# EAGLE library part ESP32DEVB (library MouseLib)
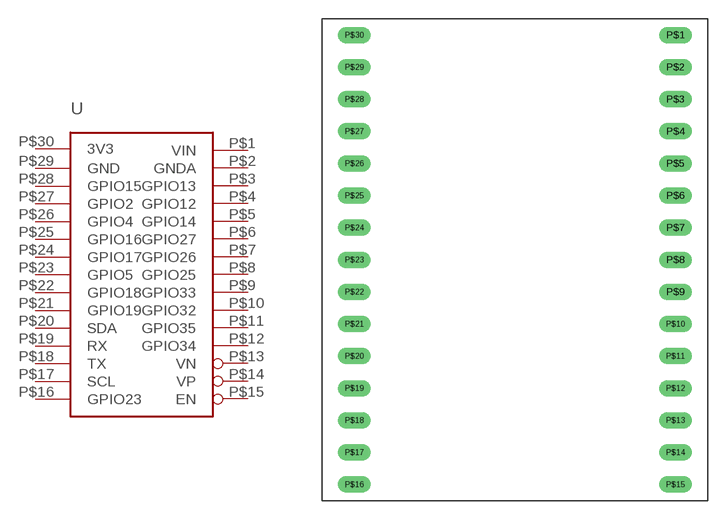
[diagram p10: symbol with the pads of ESP32PINS; footprint ESP32PINS]

Designator prefix -

## ESP32DEVB  [ESP32PINS]
P$1  VIN  pwr
P$2  GNDA  pwr
P$3  GPIO13
P$4  GPIO12
P$5  GPIO14
P$6  GPIO27
P$7  GPIO26
P$8  GPIO25
P$9  GPIO33
P$10  GPIO32
P$11  GPIO35
P$12  GPIO34
P$13  VN
P$14  VP
P$15  EN
P$16  GPIO23
P$17  SCL
P$18  TX
P$19  RX
P$20  SDA
P$21  GPIO19
P$22  GPIO18
P$23  GPIO5
P$24  GPIO17
P$25  GPIO16
P$26  GPIO4
P$27  GPIO2
P$28  GPIO15
P$29  GND  pwr
P$30  3V3  pwr

## Footprint ESP32PINS (pad centres in mm)
drill 0.8 pad 1.143 long: P$1 12.7,19.05; P$2 12.7,16.51; P$3 12.7,13.97; P$4 12.7,11.43; P$5 12.7,8.89; P$6 12.7,6.35; P$7 12.7,3.81; P$8 12.7,1.27; P$9 12.7,-1.27; P$10 12.7,-3.81; P$11 12.7,-6.35; P$12 12.7,-8.89; P$13 12.7,-11.43; P$14 12.7,-13.97; P$15 12.7,-16.51; P$16 -12.7,-16.51; P$17 -12.7,-13.97; P$18 -12.7,-11.43; P$19 -12.7,-8.89; P$20 -12.7,-6.35; P$21 -12.7,-3.81; P$22 -12.7,-1.27; P$23 -12.7,1.27; P$24 -12.7,3.81; P$25 -12.7,6.35; P$26 -12.7,8.89; P$27 -12.7,11.43; P$28 -12.7,13.97; P$29 -12.7,16.51; P$30 -12.7,19.05